# EAGLE library part TCA9548A (library HelaTronix - IC Special Functions)
Low-Voltage 8-Channel I2C Multiplexer Switch with Reset
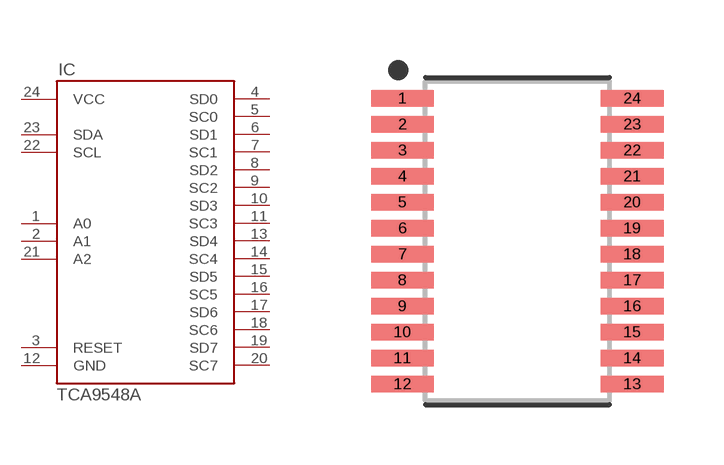
[diagram p1: symbol with the pads of TSSOP65P640X120-24N; footprint TSSOP65P640X120-24N]

Designator prefix IC

## TCA9548A (LCSC#: C130026; LCSC_LINK: https://lcsc.com/product-detail/Signal-Switches-Multiplexers-Decoders_Texas-Instruments-Texas-Instruments-TCA9548APWR_C130026.html; MANUFACTURER: Texas Instruments; MFR#: TCA9548APWR)  [TSSOP65P640X120-24N]
1  A0
2  A1
3  RESET
4  SD0
5  SC0
6  SD1
7  SC1
8  SD2
9  SC2
10  SD3
11  SC3
12  GND
13  SD4
14  SC4
15  SD5
16  SC5
17  SD6
18  SC6
19  SD7
20  SC7
21  A2
22  SCL
23  SDA
24  VCC

## Footprint TSSOP65P640X120-24N (pad centres in mm)
24-SOP, 0.65 mm pitch, 6.40 mm span, 7.90 X 4.50 X 1.20 mm body 24-pin SOP package with 0.65 mm pitch, 6.40 mm span with body size 7.90 X 4.50 X 1.20 mm
smd 1.572 x 0.41: 1 -2.872,3.575; 2 -2.872,2.925; 3 -2.872,2.275; 4 -2.872,1.625; 5 -2.872,0.975; 6 -2.872,0.325; 7 -2.872,-0.325; 8 -2.872,-0.975; 9 -2.872,-1.625; 10 -2.872,-2.275; 11 -2.872,-2.925; 12 -2.872,-3.575; 13 2.872,-3.575; 14 2.872,-2.925; 15 2.872,-2.275; 16 2.872,-1.625; 17 2.872,-0.975; 18 2.872,-0.325; 19 2.872,0.325; 20 2.872,0.975; 21 2.872,1.625; 22 2.872,2.275; 23 2.872,2.925; 24 2.872,3.575